# Altium integrated library Custom_jst.IntLib: 2 symbols
Pins are listed as number, name and electrical type; pins without a type are passive.

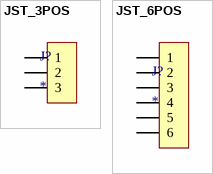
[diagram p0: symbols JST_3POS to JST_6POS]

## JST_3POS
designator J?
JST 3POS
footprint JST 3POS 2MM
pins: 1 "Connector", 2 "Connector", 3 "Connector"

## JST_6POS
designator J?
JST_6POS
footprint JST 6POS 2MM
pins: 1 "Connector", 2 "Connector", 3 "Connector", 4 "Connector", 5 "Connector", 6 "Connector"